# Altium footprint library J 接插件.PcbLib: 458 footprints (part 14 of 29)
Each footprint in its own frame and in the unit in brackets; x right, y up, seen from the top. Pads: shape width x height; smd on the part's side, far side on the other; paste and mask are expansions set on the pad; w line width, h text height; cw(c..) or ccw(c..) is an arc to the next point about the centre after c.
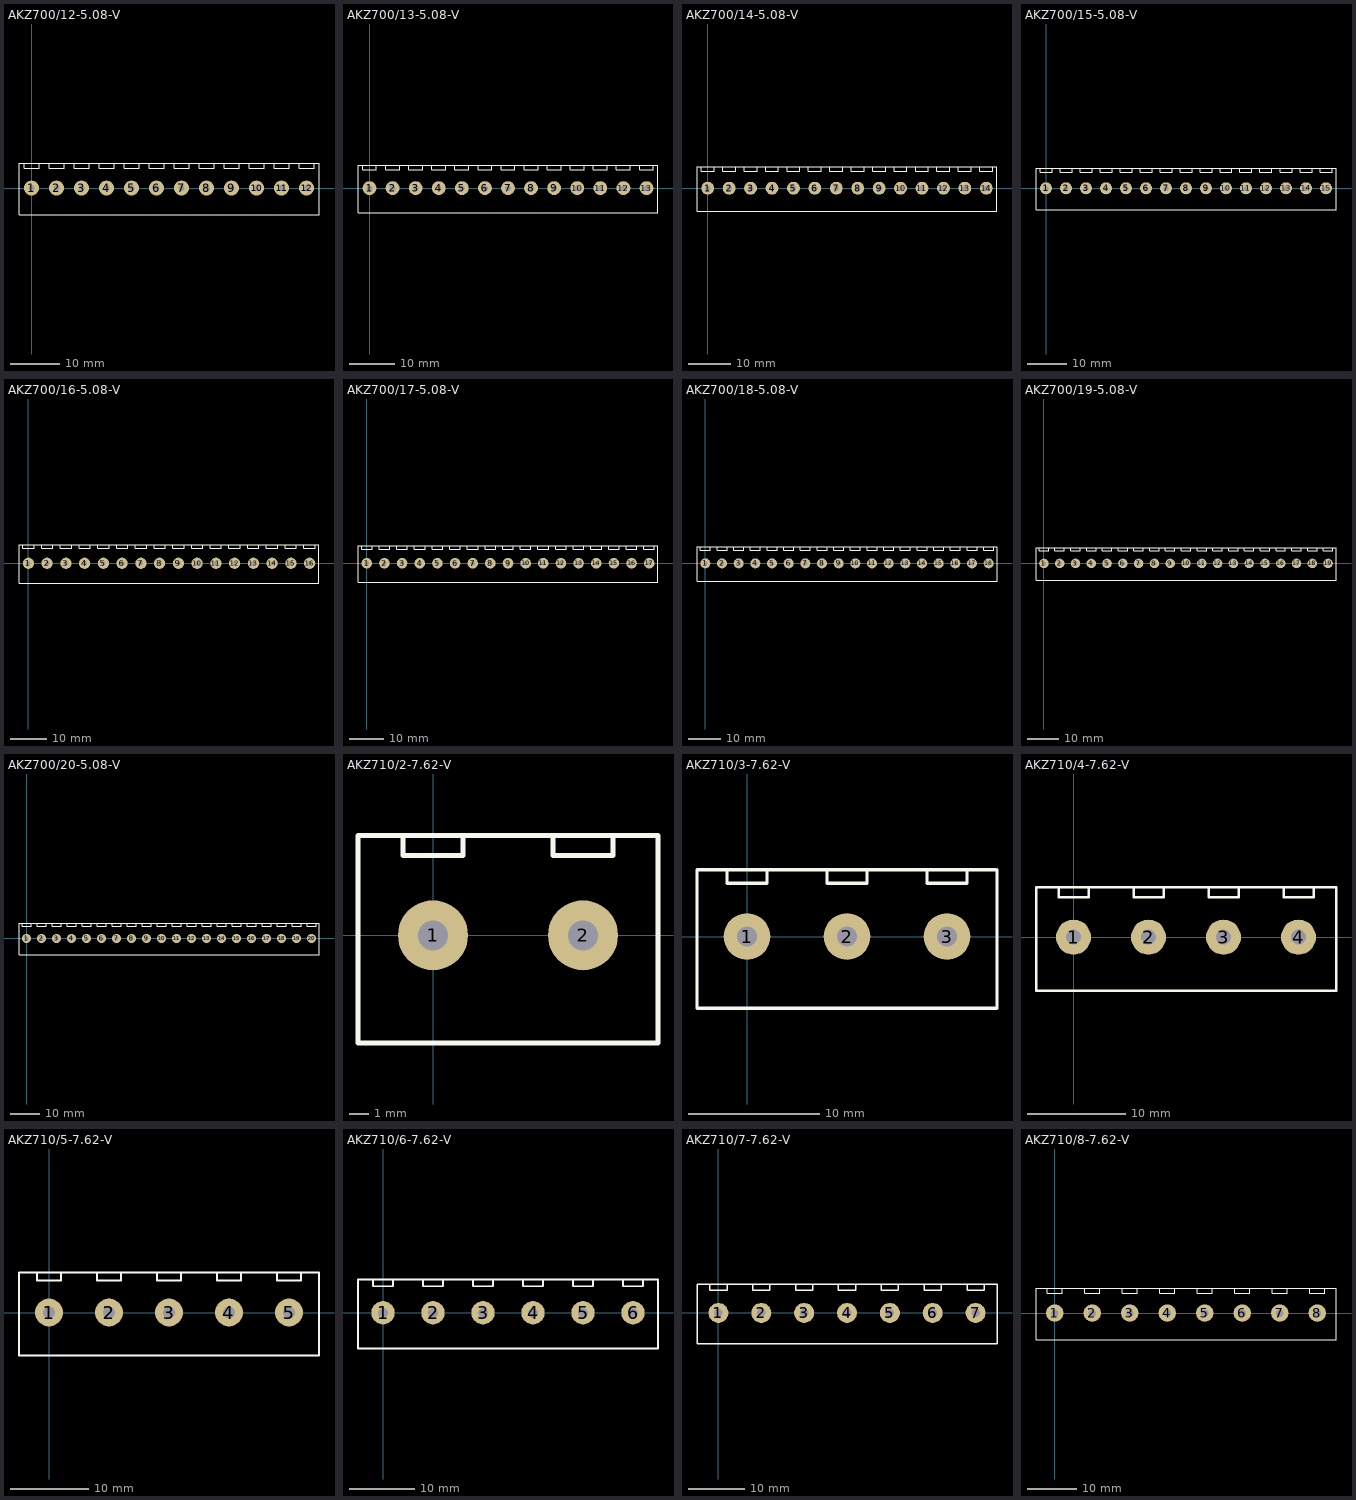
[diagram p13: the footprints below, top view; thin cyan lines are the x and y axes]

## AKZ700/12-5.08-V [mil] "美卡诺 AKZ700 接触件 间距：5.08   12Pin"
height 748.03
pads (12):
  round 120 hole 50: 1(0,0) 2(200,0) 3(400,0) 4(600,0) 5(800,0) 6(1000,0) 7(1200,0) 8(1400,0) 9(1600,0) 10(1800,0) 11(2000,0) 12(2200,0)
Top Overlay:
  lines w10: -60,200 -60,160 60,160 60,200 ; 140,200 140,160 260,160 260,200 ; 340,200 340,160 460,160 460,200 ; 540,200 540,160 660,160 660,200 ; 740,200 740,160 860,160 860,200 ; 940,200 940,160 1060,160 1060,200 ; 1140,200 1140,160 1260,160 1260,200 ; 1340,200 1340,160 1460,160 1460,200 ; 1540,200 1540,160 1660,160 1660,200 ; 1740,200 1740,160 1860,160 1860,200 ; 1940,200 1940,160 2060,160 2060,200 ; 2140,200 2140,160 2260,160 2260,200 ; -100,-215 -100,200 2300,200 2300,-215 -100,-215

## AKZ700/13-5.08-V [mil] "美卡诺 AKZ700 接触件 间距：5.08   13Pin"
height 748.03
pads (13):
  round 120 hole 50: 1(0,0) 2(200,0) 3(400,0) 4(600,0) 5(800,0) 6(1000,0) 7(1200,0) 8(1400,0) 9(1600,0) 10(1800,0) 11(2000,0) 12(2200,0) 13(2400,0)
Top Overlay:
  lines w10: -60,200 -60,160 60,160 60,200 ; 140,200 140,160 260,160 260,200 ; 340,200 340,160 460,160 460,200 ; 540,200 540,160 660,160 660,200 ; 740,200 740,160 860,160 860,200 ; 940,200 940,160 1060,160 1060,200 ; 1140,200 1140,160 1260,160 1260,200 ; 1340,200 1340,160 1460,160 1460,200 ; 1540,200 1540,160 1660,160 1660,200 ; 1740,200 1740,160 1860,160 1860,200 ; 1940,200 1940,160 2060,160 2060,200 ; 2140,200 2140,160 2260,160 2260,200 ; 2340,200 2340,160 2460,160 2460,200 ; -100,-215 -100,200 2500,200 2500,-215 -100,-215

## AKZ700/14-5.08-V [mil] "美卡诺 AKZ700 接触件 间距：5.08   14Pin"
height 748.03
pads (14):
  round 120 hole 50: 1(0,0) 2(200,0) 3(400,0) 4(600,0) 5(800,0) 6(1000,0) 7(1200,0) 8(1400,0) 9(1600,0) 10(1800,0) 11(2000,0) 12(2200,0) 13(2400,0) 14(2600,0)
Top Overlay:
  lines w10: -60,200 -60,160 60,160 60,200 ; 140,200 140,160 260,160 260,200 ; 340,200 340,160 460,160 460,200 ; 540,200 540,160 660,160 660,200 ; 740,200 740,160 860,160 860,200 ; 940,200 940,160 1060,160 1060,200 ; 1140,200 1140,160 1260,160 1260,200 ; 1340,200 1340,160 1460,160 1460,200 ; 1540,200 1540,160 1660,160 1660,200 ; 1740,200 1740,160 1860,160 1860,200 ; 1940,200 1940,160 2060,160 2060,200 ; 2140,200 2140,160 2260,160 2260,200 ; 2340,200 2340,160 2460,160 2460,200 ; 2540,200 2540,160 2660,160 2660,200 ; -100,-215 -100,200 2700,200 2700,-215 -100,-215

## AKZ700/15-5.08-V [mil] "美卡诺 AKZ700 接触件 间距：5.08   15Pin"
height 748.03
pads (15):
  round 120 hole 50: 1(0,0) 2(200,0) 3(400,0) 4(600,0) 5(800,0) 6(1000,0) 7(1200,0) 8(1400,0) 9(1600,0) 10(1800,0) 11(2000,0) 12(2200,0) 13(2400,0) 14(2600,0) 15(2800,0)
Top Overlay:
  lines w10: -60,200 -60,160 60,160 60,200 ; 140,200 140,160 260,160 260,200 ; 340,200 340,160 460,160 460,200 ; 540,200 540,160 660,160 660,200 ; 740,200 740,160 860,160 860,200 ; 940,200 940,160 1060,160 1060,200 ; 1140,200 1140,160 1260,160 1260,200 ; 1340,200 1340,160 1460,160 1460,200 ; 1540,200 1540,160 1660,160 1660,200 ; 1740,200 1740,160 1860,160 1860,200 ; 1940,200 1940,160 2060,160 2060,200 ; 2140,200 2140,160 2260,160 2260,200 ; 2340,200 2340,160 2460,160 2460,200 ; 2540,200 2540,160 2660,160 2660,200 ; 2740,200 2740,160 2860,160 2860,200 ; -100,-215 2900,-215 2900,200 -100,200 -100,-215

## AKZ700/16-5.08-V [mil] "美卡诺 AKZ700 接触件 间距：5.08   16Pin"
height 748.03
pads (16):
  round 120 hole 50: 1(0,0) 2(200,0) 3(400,0) 4(600,0) 5(800,0) 6(1000,0) 7(1200,0) 8(1400,0) 9(1600,0) 10(1800,0) 11(2000,0) 12(2200,0) 13(2400,0) 14(2600,0) 15(2800,0) 16(3000,0)
Top Overlay:
  lines w10: -60,200 -60,160 60,160 60,200 ; 140,200 140,160 260,160 260,200 ; 340,200 340,160 460,160 460,200 ; 540,200 540,160 660,160 660,200 ; 740,200 740,160 860,160 860,200 ; 940,200 940,160 1060,160 1060,200 ; 1140,200 1140,160 1260,160 1260,200 ; 1340,200 1340,160 1460,160 1460,200 ; 1540,200 1540,160 1660,160 1660,200 ; 1740,200 1740,160 1860,160 1860,200 ; 1940,200 1940,160 2060,160 2060,200 ; 2140,200 2140,160 2260,160 2260,200 ; 2340,200 2340,160 2460,160 2460,200 ; 2540,200 2540,160 2660,160 2660,200 ; 2740,200 2740,160 2860,160 2860,200 ; 2940,200 2940,160 3060,160 3060,200 ; -100,-215 3100,-215 3100,200 -100,200 -100,-215

## AKZ700/17-5.08-V [mil] "美卡诺 AKZ700 接触件 间距：5.08   17Pin"
height 748.03
pads (17):
  round 120 hole 50: 1(0,0) 2(200,0) 3(400,0) 4(600,0) 5(800,0) 6(1000,0) 7(1200,0) 8(1400,0) 9(1600,0) 10(1800,0) 11(2000,0) 12(2200,0) 13(2400,0) 14(2600,0) 15(2800,0) 16(3000,0) 17(3200,0)
Top Overlay:
  lines w10: -60,200 -60,160 60,160 60,200 ; 140,200 140,160 260,160 260,200 ; 340,200 340,160 460,160 460,200 ; 540,200 540,160 660,160 660,200 ; 740,200 740,160 860,160 860,200 ; 940,200 940,160 1060,160 1060,200 ; 1140,200 1140,160 1260,160 1260,200 ; 1340,200 1340,160 1460,160 1460,200 ; 1540,200 1540,160 1660,160 1660,200 ; 1740,200 1740,160 1860,160 1860,200 ; 1940,200 1940,160 2060,160 2060,200 ; 2140,200 2140,160 2260,160 2260,200 ; 2340,200 2340,160 2460,160 2460,200 ; 2540,200 2540,160 2660,160 2660,200 ; 2740,200 2740,160 2860,160 2860,200 ; 2940,200 2940,160 3060,160 3060,200 ; 3140,200 3140,160 3260,160 3260,200 ; -100,-215 -100,200 3300,200 3300,-215 -100,-215

## AKZ700/18-5.08-V [mil] "美卡诺 AKZ700 接触件 间距：5.08   18Pin"
height 748.03
pads (18):
  round 120 hole 50: 1(0,0) 2(200,0) 3(400,0) 4(600,0) 5(800,0) 6(1000,0) 7(1200,0) 8(1400,0) 9(1600,0) 10(1800,0) 11(2000,0) 12(2200,0) 13(2400,0) 14(2600,0) 15(2800,0) 16(3000,0) 17(3200,0) 18(3400,0)
Top Overlay:
  lines w10: -60,200 -60,160 60,160 60,200 ; 140,200 140,160 260,160 260,200 ; 340,200 340,160 460,160 460,200 ; 540,200 540,160 660,160 660,200 ; 740,200 740,160 860,160 860,200 ; 940,200 940,160 1060,160 1060,200 ; 1140,200 1140,160 1260,160 1260,200 ; 1340,200 1340,160 1460,160 1460,200 ; 1540,200 1540,160 1660,160 1660,200 ; 1740,200 1740,160 1860,160 1860,200 ; 1940,200 1940,160 2060,160 2060,200 ; 2140,200 2140,160 2260,160 2260,200 ; 2340,200 2340,160 2460,160 2460,200 ; 2540,200 2540,160 2660,160 2660,200 ; 2740,200 2740,160 2860,160 2860,200 ; 2940,200 2940,160 3060,160 3060,200 ; 3140,200 3140,160 3260,160 3260,200 ; 3340,200 3340,160 3460,160 3460,200 ; -100,-215 -100,200 3500,200 3500,-215 -100,-215

## AKZ700/19-5.08-V [mil] "美卡诺 AKZ700 接触件 间距：5.08   19Pin"
height 748.03
pads (19):
  round 120 hole 50: 1(0,0) 2(200,0) 3(400,0) 4(600,0) 5(800,0) 6(1000,0) 7(1200,0) 8(1400,0) 9(1600,0) 10(1800,0) 11(2000,0) 12(2200,0) 13(2400,0) 14(2600,0) 15(2800,0) 16(3000,0) 17(3200,0) 18(3400,0) 19(3600,0)
Top Overlay:
  lines w10: -60,200 -60,160 60,160 60,200 ; 140,200 140,160 260,160 260,200 ; 340,200 340,160 460,160 460,200 ; 540,200 540,160 660,160 660,200 ; 740,200 740,160 860,160 860,200 ; 940,200 940,160 1060,160 1060,200 ; 1140,200 1140,160 1260,160 1260,200 ; 1340,200 1340,160 1460,160 1460,200 ; 1540,200 1540,160 1660,160 1660,200 ; 1740,200 1740,160 1860,160 1860,200 ; 1940,200 1940,160 2060,160 2060,200 ; 2140,200 2140,160 2260,160 2260,200 ; 2340,200 2340,160 2460,160 2460,200 ; 2540,200 2540,160 2660,160 2660,200 ; 2740,200 2740,160 2860,160 2860,200 ; 2940,200 2940,160 3060,160 3060,200 ; 3140,200 3140,160 3260,160 3260,200 ; 3340,200 3340,160 3460,160 3460,200 ; 3540,200 3540,160 3660,160 3660,200 ; -100,-215 3700,-215 3700,200 -100,200 -100,-215

## AKZ700/20-5.08-V [mil] "美卡诺 AKZ700 接触件 间距：5.08   20Pin"
height 748.03
pads (20):
  round 120 hole 50: 1(0,0) 2(200,0) 3(400,0) 4(600,0) 5(800,0) 6(1000,0) 7(1200,0) 8(1400,0) 9(1600,0) 10(1800,0) 11(2000,0) 12(2200,0) 13(2400,0) 14(2600,0) 15(2800,0) 16(3000,0) 17(3200,0) 18(3400,0) 19(3600,0) 20(3800,0)
Top Overlay:
  lines w10: -60,200 -60,160 60,160 60,200 ; 140,200 140,160 260,160 260,200 ; 340,200 340,160 460,160 460,200 ; 540,200 540,160 660,160 660,200 ; 740,200 740,160 860,160 860,200 ; 940,200 940,160 1060,160 1060,200 ; 1140,200 1140,160 1260,160 1260,200 ; 1340,200 1340,160 1460,160 1460,200 ; 1540,200 1540,160 1660,160 1660,200 ; 1740,200 1740,160 1860,160 1860,200 ; 1940,200 1940,160 2060,160 2060,200 ; 2140,200 2140,160 2260,160 2260,200 ; 2340,200 2340,160 2460,160 2460,200 ; 2540,200 2540,160 2660,160 2660,200 ; 2740,200 2740,160 2860,160 2860,200 ; 2940,200 2940,160 3060,160 3060,200 ; 3140,200 3140,160 3260,160 3260,200 ; 3340,200 3340,160 3460,160 3460,200 ; 3540,200 3540,160 3660,160 3660,200 ; 3740,200 3740,160 3860,160 3860,200 ; -100,-215 -100,200 3900,200 3900,-215 -100,-215

## AKZ710/2-7.62-V [mil] "美卡诺 AKZ710 接触件 间距：7.62  2Pin"
height 748.03
pads (2):
  round 140 hole 60: 1(0,0) 2(300,0)
Top Overlay:
  lines w10: -60,200 -60,160 60,160 60,200 ; 240,200 240,160 360,160 360,200 ; -150,-215 -150,200 450,200 450,-215 -150,-215

## AKZ710/3-7.62-V [mil] "美卡诺 AKZ710 接触件 间距：7.62  3Pin"
height 748.03
pads (3):
  round 140 hole 60: 1(0,0) 2(300,0) 3(600,0)
Top Overlay:
  lines w10: -60,200 -60,160 60,160 60,200 ; 240,200 240,160 360,160 360,200 ; 540,200 540,160 660,160 660,200 ; 745,200 -150,200 -150,-215 750,-215 750,200

## AKZ710/4-7.62-V [mil] "美卡诺 AKZ710 接触件 间距：7.62   4Pin"
height 748.03
pads (4):
  round 140 hole 60: 1(0,0) 2(300,0) 3(600,0) 4(900,0)
Top Overlay:
  lines w10: -60,200 -60,160 60,160 60,200 ; 240,200 240,160 360,160 360,200 ; 540,200 540,160 660,160 660,200 ; 840,200 840,160 960,160 960,200 ; -150,-215 1050,-215 1050,200 -150,200 -150,-215

## AKZ710/5-7.62-V [mil] "美卡诺 AKZ710 接触件 间距：7.62   5Pin"
height 748.03
pads (5):
  round 140 hole 60: 1(0,0) 2(300,0) 3(600,0) 4(900,0) 5(1200,0)
Top Overlay:
  lines w10: -60,200 -60,160 60,160 60,200 ; 240,200 240,160 360,160 360,200 ; 540,200 540,160 660,160 660,200 ; 840,200 840,160 960,160 960,200 ; 1140,200 1140,160 1260,160 1260,200 ; -150,-215 -150,200 1350,200 1350,-215 -150,-215

## AKZ710/6-7.62-V [mil] "美卡诺 AKZ710 接触件 间距：7.62   6Pin"
height 748.03
pads (6):
  round 140 hole 60: 1(0,0) 2(300,0) 3(600,0) 4(900,0) 5(1200,0) 6(1500,0)
Top Overlay:
  lines w10: -60,200 -60,160 60,160 60,200 ; 240,200 240,160 360,160 360,200 ; 540,200 540,160 660,160 660,200 ; 840,200 840,160 960,160 960,200 ; 1140,200 1140,160 1260,160 1260,200 ; 1440,200 1440,160 1560,160 1560,200 ; -150,-215 -150,200 1650,200 1650,-215 -150,-215

## AKZ710/7-7.62-V [mil] "美卡诺 AKZ710 接触件 间距：7.62   7Pin"
height 748.03
pads (7):
  round 140 hole 60: 1(0,0) 2(300,0) 3(600,0) 4(900,0) 5(1200,0) 6(1500,0) 7(1800,0)
Top Overlay:
  lines w10: -60,200 -60,160 60,160 60,200 ; 240,200 240,160 360,160 360,200 ; 540,200 540,160 660,160 660,200 ; 840,200 840,160 960,160 960,200 ; 1140,200 1140,160 1260,160 1260,200 ; 1440,200 1440,160 1560,160 1560,200 ; 1740,200 1740,160 1860,160 1860,200 ; -150,-215 -150,200 1950,200 1950,-215 -150,-215

## AKZ710/8-7.62-V [mil] "美卡诺 AKZ710 接触件 间距：7.62   8Pin"
height 748.03
pads (8):
  round 140 hole 60: 1(0,0) 2(300,0) 3(600,0) 4(900,0) 5(1200,0) 6(1500,0) 7(1800,0) 8(2100,0)
Top Overlay:
  lines w10: -60,200 -60,160 60,160 60,200 ; 240,200 240,160 360,160 360,200 ; 540,200 540,160 660,160 660,200 ; 840,200 840,160 960,160 960,200 ; 1140,200 1140,160 1260,160 1260,200 ; 1440,200 1440,160 1560,160 1560,200 ; 1740,200 1740,160 1860,160 1860,200 ; 2040,200 2040,160 2160,160 2160,200 ; -150,-215 2250,-215 2250,200 -150,200 -150,-215